# Altium footprint library BM02B-GHS-TBT(LF)(SN)(N).PcbLib: 1 footprints
Each footprint in its own frame and in the unit in brackets; x right, y up, seen from the top. Pads: shape width x height; smd on the part's side, far side on the other; paste and mask are expansions set on the pad; w line width, h text height; cw(c..) or ccw(c..) is an arc to the next point about the centre after c.
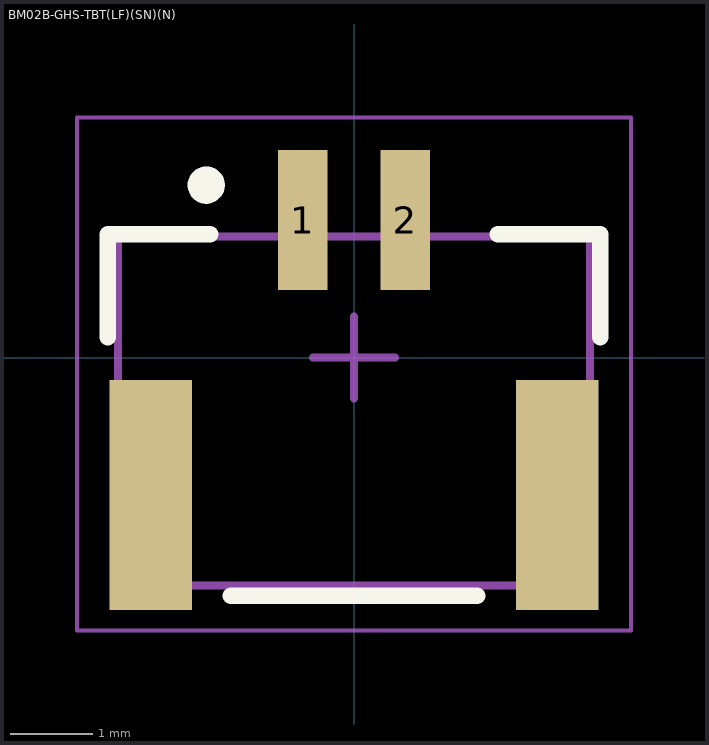
[diagram p0: the footprint, top view; thin cyan lines are the x and y axes]

## BM02B-GHS-TBT(LF)(SN)(N) [mm]
pads (4):
  rect 0.6x1.7 smd: 1(-0.625,1.675) 2(0.625,1.675)
  rect 1x2.8 smd: ""(-2.475,-1.675) ""(2.475,-1.675)
Top Overlay:
  circle w0.254: c-1.8,2.1 r0.1
  lines w0.2: -3,0.25 -3,1.5 -1.75,1.5 ; -1.5,-2.9 1.5,-2.9 ; 1.75,1.5 3,1.5 3,0.25
Mechanical 1:
  lines w0.1: -2.875,-2.775 2.875,-2.775 2.875,1.475 -2.875,1.475 -2.875,-2.775
  text ".Designator" at -2.749,-1.383 h0.65
Mechanical 2:
  lines w0.05: -3.375,-3.325 3.375,-3.325 3.375,2.925 -3.375,2.925 -3.375,-3.325
  lines w0.1: -0.5,0 0.5,0 ; 0,-0.5 0,0.5
3D body "BM02B-GHS-TBT.STEP": height 4.18, standoff -0.03, extent -2.875,-2.775 2.875,2.175